# Altium schematic symbol library Nanjar's Library.SchLib: 96 symbols
Pins are listed as number, name and electrical type; pins without a type are passive.

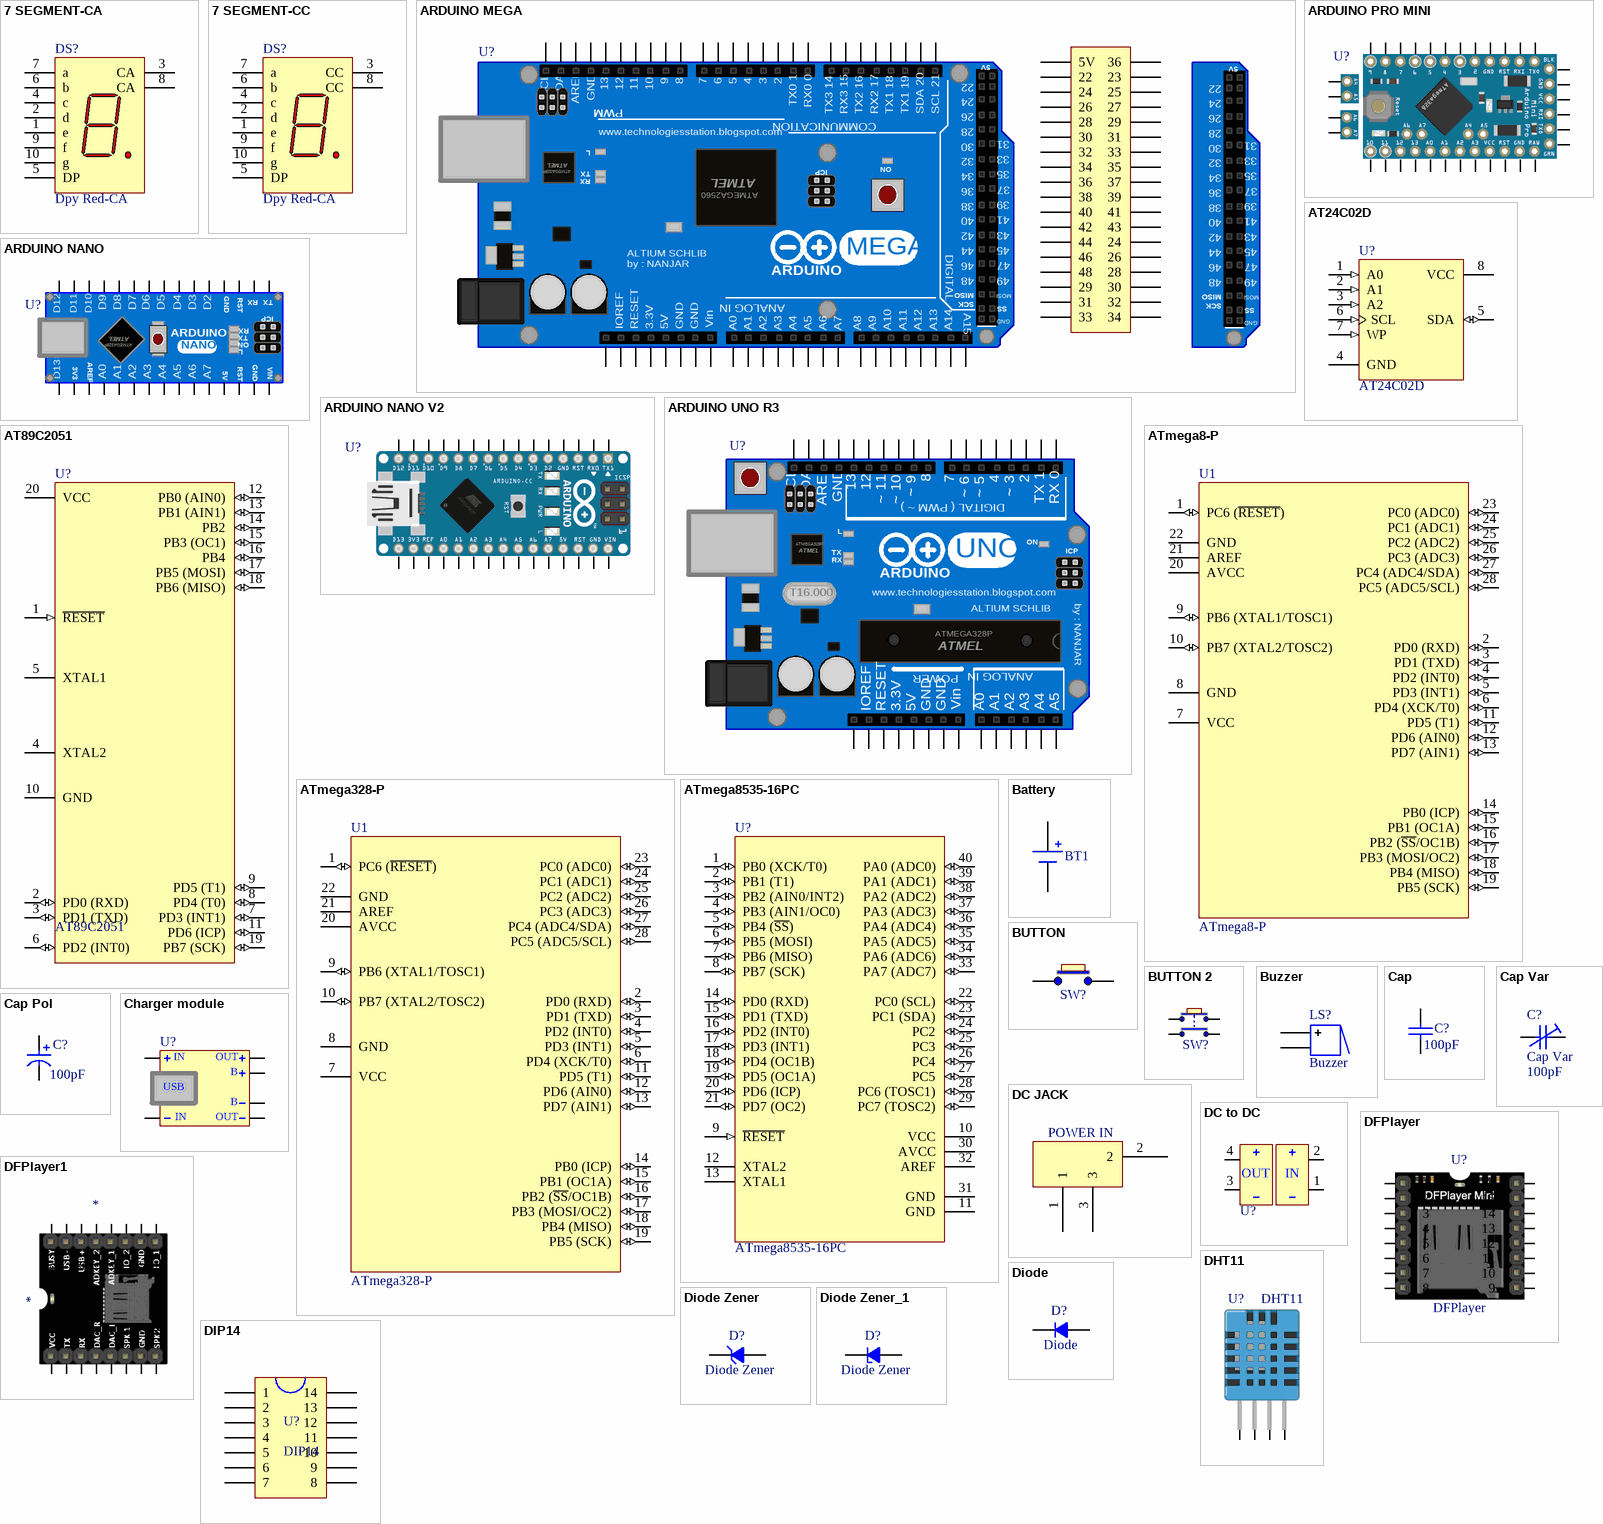
[diagram p0: symbols 7 SEGMENT-CA to DIP14]

## 7 SEGMENT-CA
designator DS?, comment Dpy Red-CA
Black Surface 7-Segment Display: CA, RH DP; MinimumIntensity: 360 ucd; Note: IF = 5 mA; Colour: High Efficiency Red (HER); Note: Pins 1 and 6 are redundant Anodes.; Published: 8-Jun-2000; LatestRevisionDate: 17-Dec-2003; LatestRevisionNote: Schematic revised, PCB Footprint replaced.; DatasheetVersion: 19-Feb-2002; PackageVersion: 11-Feb-2002; PackageReference: A; Publisher: Altium Limited; PackageDescription: LED, 7-Segment Display, 7.62 mm, RHD; 10 Leads; Row Space 5.08 mm; Pitch 2.54 mm; ComponentLink1Description: Manufacturer Link; ComponentLink1URL: http://www.agilent.com/
footprint 7 SEGMENT 0.56 1 DIGIT
footprint 7 SEGMENT 1.0 1 DIGIT
footprint 7 SEGMENT 4"
pins: 1 e "Cathode", 2 d "Cathode", 3 CA "Anode", 4 c "Cathode", 5 DP "Cathode", 6 b "Cathode", 7 a "Cathode", 8 CA "Anode", 9 f "Cathode", 10 g "Cathode"

## 7 SEGMENT-CC
designator DS?, comment Dpy Red-CA
Black Surface 7-Segment Display: CC, RH DP; MinimumIntensity: 360 ucd; Note: IF = 5 mA; Colour: High Efficiency Red (HER); Note: Pins 1 and 6 are redundant Anodes.; Published: 8-Jun-2000; LatestRevisionDate: 17-Dec-2003; LatestRevisionNote: Schematic revised, PCB Footprint replaced.; DatasheetVersion: 19-Feb-2002; PackageVersion: 11-Feb-2002; PackageReference: A; Publisher: Altium Limited; PackageDescription: LED, 7-Segment Display, 7.62 mm, RHD; 10 Leads; Row Space 5.08 mm; Pitch 2.54 mm; ComponentLink1Description: Manufacturer Link; ComponentLink1URL: http://www.agilent.com/
footprint 7 SEGMENT 0.56 1 DIGIT
footprint 7 SEGMENT 1.0 1 DIGIT
footprint 7 SEGMENT 4"
pins: 1 e "Cathode", 2 d "Cathode", 3 CC "Anode", 4 c "Cathode", 5 DP "Cathode", 6 b "Cathode", 7 a "Cathode", 8 CC "Anode", 9 f "Cathode", 10 g "Cathode"

## ARDUINO MEGA
designator U?
footprint ARDUINO UNO R3
footprint ARDUINO UNO R3 ORG
pins: 0 RX 0, 0 RX 0, 1 TX 1, 1 TX 1, 2, 2, 3 ~ 3, 3 ~ 3, 4, 4, 5 ~ 5, 5 ~ 5, 5V, 6 ~ 6, 6 ~ 6, 7, 7, 8, 9 ~ 9, 10 ~ 10, 11 ~ 11, 12, 13, 14 GND, 15 AREF, 15 36, 16 SDA, 17 SCL, 17 38, 18 Vin, 19 GND, 20 GND, 21 5V, 21 42, 22 3.3V, 22, 22 43, 23 RESET, 23, 24 IOREF, 24, 24, 25 1, 25, 26, 26, 27, 27 48, 28, 28, 29, 29, 30, 30, 31, 31, 32, 32, 33, 33, 34, 34, 35, 36, 37, 39, 40, 41, 44, 46, A0, A0, A1, A1, A2, A2, A3, A3, A4, A4, A5, A5, A6, A6, A7, A7
text: PWM; TX0 1; RX0 0; TX3 14; RX3 15; TX2 16; RX2 17; TX1 18; TX1 19; SDA 20; SCL 21; COMMUNICATION; www.technologiesstation.blogspot.com; L; ATMEL; ATMEGA328P; TX; ICP; ON; RX; ATMEGA2560; 45; ALTIUM SCHLIB; DIGITAL; 47; MEGA; by : NANJAR; 49; ARDUINO; MISO; MOSI; ANALOG IN; SCK; SS; A15; A8; A9; A10; A11; A12; A13; A14

## ARDUINO NANO
designator U?
footprint ARDUINO UNO R3
footprint ARDUINO UNO R3 ORG
pins: 1 TX, 2 RX, 4 GND, 5 D2, 6 D3, 7 D4, 9 D6, 10 D7, 11 D8, 12 D9, 13 D10, 14 D11, 15 D12, 16 D13, 17 3V3, 18 AREF, 19 A0, 20 A1, 21 A2, 22 A3, 23 A4, 24 A5, 25 A6, 26 A7, 27 5V, 28 RST, 29 GND, 30 VIN, D5 8, RST 3
text: ICP; ATMEL; ATMEGA328P; ARDUINO; ON; L; NANO

## ARDUINO NANO V2
designator U?
footprint ARDUINO NANO
footprint ARDUINO NANO1
pins: 1 TX, 2 RX, 4 GND, 5 D2, 6 D3, 7 D4, 8 D5, 9 D6, 10 D7, 11 D8, 12 D9, 13 D10, 14 D11, 15 D12, 16 D13, 17 3V3, 18 AREF, 19 A0, 20 A1, 21 A2, 22 A3, 23 A4, 24 A5, 25 A6, 26 A7, 27 5V, 28 RST, 29 GND, 30 VIN, RST 3

## ARDUINO PRO MINI
designator U?
footprint ARDUINO PRO MINI 3V3
pins: 1 TX, 2 RX, 4 GND, 5 D2, 6 D3, 7 D4, 8 D5, 9 D6, 10 D7, 11 D8, 12 D9, 13 D10, 14 D11, 15 D12, 16 D13, 17 A0, 18 A1, 19 A2, 20 A3, 21 VCC, 22 RST, 23 GND, 24 RAW, 25 GRN, 26 TX, 27 RX, 28 VCC, 29 GND, 30 BLK, 31 A4, 32 A5, 33 D10, 34 D11, RST 3

## ARDUINO UNO R3
designator U?
footprint ARDUINO UNO R3
footprint ARDUINO UNO R3 ORG
footprint ARDUINO UNO R3 SHIELD
pins: 0 RX 0, 1 TX 1, 2, 3 ~ 3, 4, 5 ~ 5, 6 ~ 6, 7, 8, 9 ~ 9, 10 ~ 10, 11 ~ 11, 12, 13, 14 GND, 15 AREF, 16 SDA, 17 SCL, 18 Vin, 19 GND, 20 GND, 21 5V, 22 3.3V, 23 RESET, 24 IOREF, 25 1, A0, A1, A2, A3, A4, A5
text: DIGITAL ( PWM ~ ); L; ATMEGA328P; ON; ATMEL; TX; ICP; RX; UNO; ARDUINO; T16.000; www.technologiesstation.blogspot.com; by : NANJAR; ALTIUM SCHLIB; POWER; ANALOG IN

## AT24C02D
designator U?
2Kbit Serial I²C Bus EEPROM; Published: 24-Aug-2001; PackageVersion: Jun-1998; PackageReference: PSDIP8A; Publisher: Altium Limited; PackageDescription: DIP; 8 Leads; Row Spacing 7.62 mm; Pitch 2.54 mm
footprint DIP8
pins: 1 A0 (in), 2 A1 (in), 3 A2 (in), 4 GND (power), 5 SDA (io), 6 SCL (in), 7 WP (in), 8 VCC (power)

## AT89C2051
designator U?
8-Bit AVR Microcontroller with 2K Bytes of In-System Programmable Flash Memory; Published: 17-Sep-2003; LatestRevisionDate: 04-Mar-2005; LatestRevisionNote: Stylized 3D Model Added.; DatasheetVersion: 0839I-AVR-06/02; PackageVersion: Aug-1999; PackageReference: 20P3; Publisher: Altium Limited; PackageDescription: DIP; 20 Leads; Row Spacing 7.62 mm; Pitch 2.54 mm; Code_JEDEC: MS-001-AD; ComponentLink1Description: Manufacturer Link; ComponentLink1URL: http://www.atmel.com; ComponentLink2Description: Datasheet; ComponentLink2URL: http://www.atmel.com/dyn/resources/prod_documents/doc0839.pdf
footprint DIP-20 (DIP; 14 Leads; Row Spacing 7.62 mm; Pitch 2.54 mm)
pins: 1 ~{RESET} (in), 2 PD0 (RXD) (io), 3 PD1 (TXD) (io), 4 XTAL2, 5 XTAL1, 6 PD2 (INT0) (io), 7 PD3 (INT1) (io), 8 PD4 (T0) (io), 9 PD5 (T1) (io), 10 GND (power), 11 PD6 (ICP) (io), 12 PB0 (AIN0) (io), 13 PB1 (AIN1) (io), 14 PB2 (io), 15 PB3 (OC1) (io), 16 PB4 (io), 17 PB5 (MOSI) (io), 18 PB6 (MISO) (io), 19 PB7 (SCK) (io), 20 VCC (power)

## ATmega8-P
designator U1
8-Bit AVR Microcontroller with 8K Bytes of In-System Programmable Flash Memory; Published: 17-Sep-2003; LatestRevisionDate: 04-Mar-2005; LatestRevisionNote: Stylized 3D Model Added.; DatasheetVersion: 2486H-AVR-09/02; PackageVersion: revB, Sep-2001; PackageReference: 28P3; Publisher: Altium Limited; PackageDescription: DIP; 28 Leads; Row Spacing 7.62 mm; Pitch 2.54 mm; ComponentLink1Description: Manufacturer Link; ComponentLink1URL: http://www.atmel.com; ComponentLink2Description: Datasheet; ComponentLink2URL: http://www.atmel.com/dyn/resources/prod_documents/doc2486.pdf
footprint DIP-28 (DIP; 28 Leads; Row Spacing 7.62 mm; Pitch 2.54 mm)
footprint DIP-28 With Socket (DIP; 28 Leads; Row Spacing 7.62 mm; Pitch 2.54 mm)
pins: 1 PC6 (~{RESET}) (io), 2 PD0 (RXD) (io), 3 PD1 (TXD) (io), 4 PD2 (INT0) (io), 5 PD3 (INT1) (io), 6 PD4 (XCK/T0) (io), 7 VCC (power), 8 GND (power), 9 PB6 (XTAL1/TOSC1) (io), 10 PB7 (XTAL2/TOSC2) (io), 11 PD5 (T1) (io), 12 PD6 (AIN0) (io), 13 PD7 (AIN1) (io), 14 PB0 (ICP) (io), 15 PB1 (OC1A) (io), 16 PB2 (~{SS}/OC1B) (io), 17 PB3 (MOSI/OC2) (io), 18 PB4 (MISO) (io), 19 PB5 (SCK) (io), 20 AVCC (power), 21 AREF, 22 GND (power), 23 PC0 (ADC0) (io), 24 PC1 (ADC1) (io), 25 PC2 (ADC2) (io), 26 PC3 (ADC3) (io), 27 PC4 (ADC4/SDA) (io), 28 PC5 (ADC5/SCL) (io)

## ATmega328-P
designator U1
8-Bit AVR Microcontroller with 8K Bytes of In-System Programmable Flash Memory; Published: 17-Sep-2003; LatestRevisionDate: 04-Mar-2005; LatestRevisionNote: Stylized 3D Model Added.; DatasheetVersion: 2486H-AVR-09/02; PackageVersion: revB, Sep-2001; PackageReference: 28P3; Publisher: Altium Limited; PackageDescription: DIP; 28 Leads; Row Spacing 7.62 mm; Pitch 2.54 mm; ComponentLink1Description: Manufacturer Link; ComponentLink1URL: http://www.atmel.com; ComponentLink2Description: Datasheet; ComponentLink2URL: http://www.atmel.com/dyn/resources/prod_documents/doc2486.pdf
footprint DIP-28 (DIP; 28 Leads; Row Spacing 7.62 mm; Pitch 2.54 mm)
footprint DIP-28 With Socket (DIP; 28 Leads; Row Spacing 7.62 mm; Pitch 2.54 mm)
pins: 1 PC6 (~{RESET}) (io), 2 PD0 (RXD) (io), 3 PD1 (TXD) (io), 4 PD2 (INT0) (io), 5 PD3 (INT1) (io), 6 PD4 (XCK/T0) (io), 7 VCC (power), 8 GND (power), 9 PB6 (XTAL1/TOSC1) (io), 10 PB7 (XTAL2/TOSC2) (io), 11 PD5 (T1) (io), 12 PD6 (AIN0) (io), 13 PD7 (AIN1) (io), 14 PB0 (ICP) (io), 15 PB1 (OC1A) (io), 16 PB2 (~{SS}/OC1B) (io), 17 PB3 (MOSI/OC2) (io), 18 PB4 (MISO) (io), 19 PB5 (SCK) (io), 20 AVCC (power), 21 AREF, 22 GND (power), 23 PC0 (ADC0) (io), 24 PC1 (ADC1) (io), 25 PC2 (ADC2) (io), 26 PC3 (ADC3) (io), 27 PC4 (ADC4/SDA) (io), 28 PC5 (ADC5/SCL) (io)

## ATmega8535-16PC
designator U?
8-Bit AVR Microcontroller with 8K Bytes of In-System Programmable Flash Memory; Published: 17-Sep-2003; LatestRevisionDate: 04-Mar-2005; LatestRevisionNote: Stylized 3D Model Added.; DatasheetVersion: 2502B-AVR-09/02; PackageVersion: Dec-1999; PackageReference: 40P6; Publisher: Altium Limited; PackageDescription: DIP; 40 Leads; Row Spacing 15.24 mm; Pitch 2.54 mm; ComponentLink1Description: Manufacturer Link; ComponentLink1URL: http://www.atmel.com; ComponentLink2Description: Datasheet; ComponentLink2URL: http://www.atmel.com/dyn/resources/prod_documents/doc2502.pdf
footprint DIP-40 (DIP; 40 Leads; Row Spacing 15.24 mm; Pitch 2.54 mm)
footprint DIP-40 SOCKET (DIP; 40 Leads; Row Spacing 15.24 mm; Pitch 2.54 mm)
footprint SOCKET DIP40 2 (DIP; 40 Leads; Row Spacing 15.24 mm; Pitch 2.54 mm)
pins: 1 PB0 (XCK/T0) (io), 2 PB1 (T1) (io), 3 PB2 (AIN0/INT2) (io), 4 PB3 (AIN1/OC0) (io), 5 PB4 (~{SS}) (io), 6 PB5 (MOSI) (io), 7 PB6 (MISO) (io), 8 PB7 (SCK) (io), 9 ~{RESET} (in), 10 VCC (power), 11 GND (power), 12 XTAL2, 13 XTAL1, 14 PD0 (RXD) (io), 15 PD1 (TXD) (io), 16 PD2 (INT0) (io), 17 PD3 (INT1) (io), 18 PD4 (OC1B) (io), 19 PD5 (OC1A) (io), 20 PD6 (ICP) (io), 21 PD7 (OC2) (io), 22 PC0 (SCL) (io), 23 PC1 (SDA) (io), 24 PC2 (io), 25 PC3 (io), 26 PC4 (io), 27 PC5 (io), 28 PC6 (TOSC1) (io), 29 PC7 (TOSC2) (io), 30 AVCC (power), 31 GND (power), 32 AREF, 33 PA7 (ADC7) (io), 34 PA6 (ADC6) (io), 35 PA5 (ADC5) (io), 36 PA4 (ADC4) (io), 37 PA3 (ADC3) (io), 38 PA2 (ADC2) (io), 39 PA1 (ADC1) (io), 40 PA0 (ADC0) (io)

## Battery
designator BT1  (value not drawn)
Multicell Battery; Published: 24-Mar-1999; LatestRevisionDate: 17-Jul-2002; LatestRevisionNote: Re-released for DXP Platform.; PackageReference: BAT-2; Publisher: Altium Limited; PackageDescription: Battery; 2 Leads
footprint BAT-2 (Battery; 2 Leads)
pins: 1 +, 2 -

## BUTTON
designator SW?  (value not drawn)
pins: 1, 2

## BUTTON 2
designator SW?, comment BUTTON  (value not drawn)
footprint PUSH BUTTON 4P
pins: 1, 2, 3, 4

## Buzzer
designator LS?
Magnetic Transducer Buzzer; Published: 24-Mar-1999; LatestRevisionDate: 17-Dec-2003; LatestRevisionNote: Schematic revised, PCB Footprint replaced.; DatasheetVersion: 17-Dec-2003; PackageReference: ABSM-1574; Publisher: Altium Limited; PackageDescription: Magnetic Transducer Buzzer; ComponentLink1Description: Manufacturer Link; ComponentLink1URL: http://www.megastar.com/linecard/buzzmode/index.php
footprint BUZZER2
pins: 1, 2
1 alternate drawing of the same symbol

## Cap
designator C?  value 100pF
Capacitor; Published: 8-Jun-2000; LatestRevisionDate: 17-Jul-2002; LatestRevisionNote: Re-released for DXP Platform.; PackageReference: RAD-0.3; Publisher: Altium Limited; PackageDescription: Radial Cap, Thru-Hole; 2 Leads; 0.3 in Pin Spacing
footprint CAP 104 (Capasitor Troughole)
footprint CAP NONP2
footprint CAPASITOR FILM 6MM P
pins: 1, 2

## Cap Pol
designator C?  value 100pF
Polarized Capacitor (Radial); Published: 8-Jun-2000; LatestRevisionDate: 17-Jul-2002; LatestRevisionNote: Re-released for DXP Platform.; PackageReference: RB7.6-15; Publisher: Altium Limited; PackageDescription: Polarized Capacitor (Radial); 2 Leads
footprint CAPASITOR RAD 5x11mm
footprint CAPASITOR RAD 6.3x11mm
footprint CAPASITOR RAD 8x12mm
footprint CAPASITOR RAD 5.6 mm "1/.2"
pins: 1, 2
1 alternate drawing of the same symbol

## Cap Var
designator C?  value 100pF
Variable or Adjustable Capacitor; Published: 24-Mar-1999; LatestRevisionDate: 29-May-2009; LatestRevisionNote: IPC-7351 Footprint Added.; PackageReference: C1210; Publisher: Altium Limited; PackageDescription: Chip Capacitor 1210 Case Size; Code_JEITA: 1210; Code_IPC: CAPC3225
footprint C1210_N (Chip Capacitor, Body 3.2x2.5mm, IPC Medium Density)
footprint C1210_L (Chip Capacitor, Body 3.2x2.5mm, IPC High Density)
footprint C1210_M (Chip Capacitor, Body 3.2x2.5mm, IPC Low Density)
signal-integrity model Cap Var
pins: 1, 2

## Charger module
designator U?, comment Isolated Sub-Miniature 1W Single Output DC/DC Converters  (value not drawn)
Manufacturer Part No: NKE1205SC; Price: *; Order Code: *; Manufacturer: *; Value: *
footprint Charger Module
pins: 1, 2, 3, 4, 5, 6
text: IN; OUT; B; USB

## DC JACK
designator DCIN, comment POWER IN
footprint DCJACK
pins: 1, 2, 3

## DC to DC
designator U?, comment Isolated Sub-Miniature 1W Single Output DC/DC Converters  (value not drawn)
Manufacturer Part No: NKE1205SC; Price: *; Order Code: *; Manufacturer: *; Value: *
pins: 1, 2, 3, 4
text: OUT; IN

## DFPlayer
designator U?
footprint DFPlayer
pins: 1, 2, 3, 4, 5, 6, 7, 8, 9, 10, 11, 12, 13, 14, 15, 16

## DFPlayer1
designator *
footprint DFPlayer
pins: 1, 2, 3, 4, 5, 6, 7, 8, 9, 10, 11, 12, 13, 14, 15, 16

## DHT11
designator U?
footprint DHT11 (Humidity Sensor)
pins: 1 VCC, 2 DATA, 3 NC, 4 GND

## Diode
designator D?
Default Diode; Published: 8-Jun-2000; LatestRevisionDate: 17-Jul-2002; LatestRevisionNote: Re-released for DXP Platform.; PackageVersion: Sep-1996; PackageReference: SMC; Publisher: Altium Limited; PackageDescription: DO-214-AB/SMC; 2 C-Bend Leads; Body 7.9 x 5.9 mm, inc. leads (LxW); Code_JEDEC: DO-214-AB
footprint DIODE 4007 (DIODE 4002)
footprint DIODA DO-41 (DIODE AXIAL 5.2 X 2.7)
footprint DIODE 4148
footprint DIODE 4007 SMD
pins: 1 A, 2 K

## Diode Zener
designator D?
Default Diode; Published: 8-Jun-2000; LatestRevisionDate: 17-Jul-2002; LatestRevisionNote: Re-released for DXP Platform.; PackageVersion: Sep-1996; PackageReference: SMC; Publisher: Altium Limited; PackageDescription: DO-214-AB/SMC; 2 C-Bend Leads; Body 7.9 x 5.9 mm, inc. leads (LxW); Code_JEDEC: DO-214-AB
footprint DIODE 4007 (DIODE 4002)
footprint DIODA DO-41 (DIODE AXIAL 5.2 X 2.7)
pins: 1 A, 2 K

## Diode Zener_1
designator D?, comment Diode Zener
Default Diode; Published: 8-Jun-2000; LatestRevisionDate: 17-Jul-2002; LatestRevisionNote: Re-released for DXP Platform.; PackageVersion: Sep-1996; PackageReference: SMC; Publisher: Altium Limited; PackageDescription: DO-214-AB/SMC; 2 C-Bend Leads; Body 7.9 x 5.9 mm, inc. leads (LxW); Code_JEDEC: DO-214-AB
footprint DIODE 4007 (DIODE 4002)
footprint DIODA DO-41 (DIODE AXIAL 5.2 X 2.7)
footprint DIODE 4148
pins: 1 A, 2 K

## DIP14
designator U?
footprint DIP14
pins: 1, 2, 3, 4, 5, 6, 7, 8, 9, 10, 11, 12, 13, 14

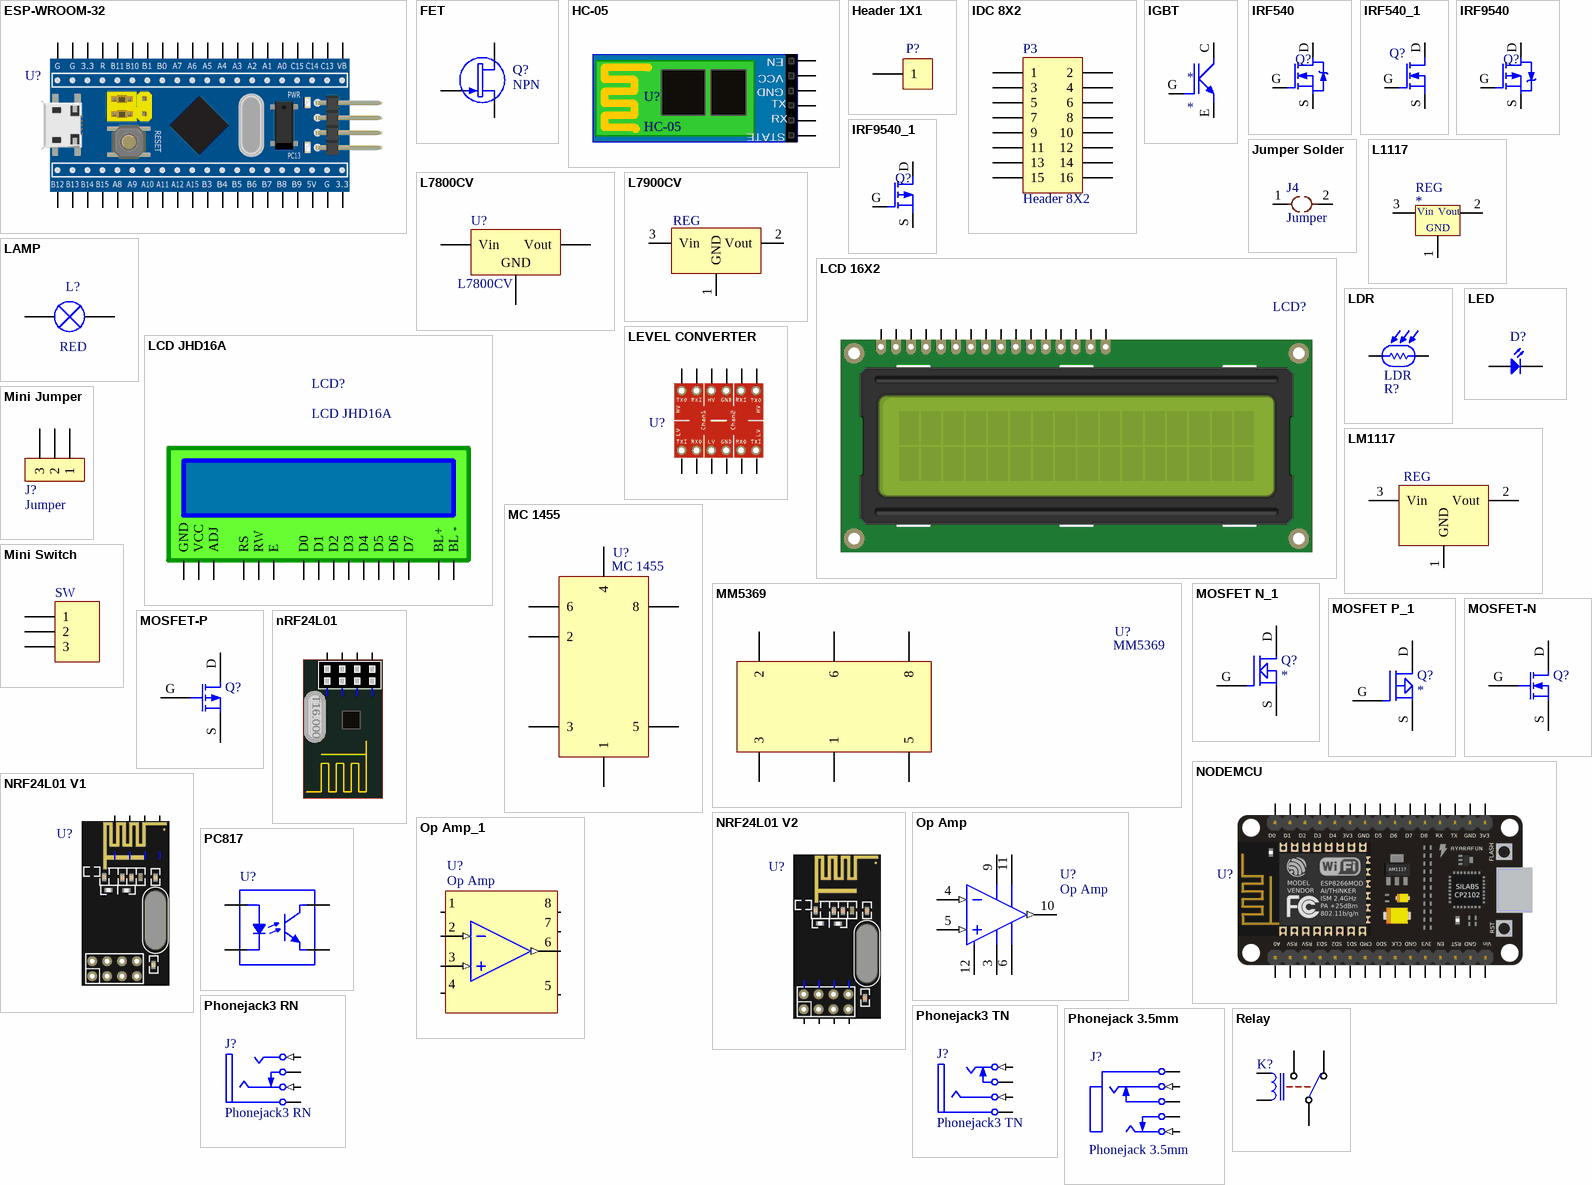
[diagram p1: symbols ESP-WROOM-32 to Relay]

## ESP-WROOM-32
designator U?
footprint STM32 BLUE PILL
pins: 1 VB, 2 C13, 3 C14, 4 C15, 5 A0, 6 A1, 7 A2, 8 A3, 9 A4, 10 A5, 11 A6, 12 A7, 13 B0, 14 B1, 15 B2, 16 B3, 17 R, 18 3V3, 19 G, 20 G, 21 B12, 22 B13, 23 B14, 24 B15, 25 A8, 26 A9, 27 A10, 28 A11, 29 A12, 30 A13, 31 B3, 32 B4, 33 B5, 34 B6, 35 B7, 36 B8, 37 B9, 38 5V, 39 G, 40 3V3

## FET
designator Q?, comment NPN
NPN General Purpose Amplifier; Published: 8-Jun-2000; LatestRevisionDate: 15-Jan-2003; LatestRevisionNote: PCB Footprint 'BCY-W3/D4.7' replaced; DatasheetDocument: 1997; PackageDocument: Sep-1998; PackageReference: TO-92A; Publisher: Altium Limited; Code_JEDEC: TO-92A; ComponentLink1Description: Manufacturer Link; ComponentLink1URL: http://www.fairchildsemi.com/; ComponentLink2Description: Datasheet; ComponentLink2URL: http://www.fairchildsemi.com/ds/2N%2F2N3904.pdf
footprint TO-92C3
pins: B, C, E

## HC-05
designator U?
BLUETOOTH MODULE
footprint HDR1X6 (Footprint not found)
pins: 1 EN, 2 VCC, 3 GND, 4 TX, 5 RX, 6 STATE

## Header 1X1
designator P?  (value not drawn)
footprint HDR1X1 B (Connector; Header; 6 Position)
pins: 1

## IDC 8X2
designator P3, comment Header 8X2
Header, 8-Pin, Dual row; LatestRevisionDate: 17-Jul-2002; LatestRevisionNote: Re-released for DXP Platform.; Publisher: Altium Limited
signal-integrity model Connector
footprint IDC 16P (Connector; Header; 8x2 Position)
pins: 1, 2, 3, 4, 5, 6, 7, 8, 9, 10, 11, 12, 13, 14, 15, 16

## IGBT
designator *
pins: C, E, G

## IRF540
designator Q?, comment POWER MOSFET  (value not drawn)
pins: D, G, S

## IRF540_1
designator Q?, comment POWER MOSFET  (value not drawn)
pins: D, G, S

## IRF9540
designator Q?, comment POWER MOSFET  (value not drawn)
pins: D, G, S

## IRF9540_1
designator Q?, comment POWER MOSFET  (value not drawn)
pins: D, G, S

## Jumper Solder
designator J4, comment Jumper
footprint SJ
footprint SJ-A
pins: 1, 2

## L1117
designator REG
pins: 1 GND, 2 Vout, 3 Vin

## L7800CV
designator U?
Voltage Regulator; PackageDescription: 3-Pin Transistor Outline Package 2.54 mm Pitch, 15.1 mm Lead Span
footprint TO-220R
pins: 1 Vin, 2 GND, 3 Vout

## L7900CV
designator REG
footprint T0-220 A
pins: 1 GND, 2 Vout, 3 Vin

## LAMP
designator L?, comment RED
Typical RED GaAs LED; Published: 8-Jun-2000; LatestRevisionDate: 08-Jul-2005; LatestRevisionNote: Mech Layer 1 removed.; Publisher: Altium Limited; PackageDescription: LED; 2 Leads
footprint LED5mm R
pins: 1 A, 2 K

## LCD 16X2
designator LCD?, comment JHD16A  (value not drawn)
footprint LDC 16X2 Arduino
pins: 1 GND, 2 VCC, 3 VDD, 4 RS, 5 RAW, 6 E, 7 D0, 8 D1, 9 D2, 10 D3, 11 D4, 12 D5, 13 D6, 14 D7, 15 BL (+), 16 BL (-)

## LCD JHD16A
designator LCD?
footprint LDC 16X2
pins: 1 GND, 2 VCC, 3 ADJ, 4 RS, 5 RW, 6 E, 7 D0, 8 D1, 9 D2, 10 D3, 11 D4, 12 D5, 13 D6, 14 D7, 15 BL+, 16 BL -

## LDR
designator R?
Published: 8-Jun-2000; LatestRevisionDate: 17-Jul-2002; LatestRevisionNote: Re-released for DXP Platform.; PackageReference: AXIAL-0.3; Publisher: Altium Limited; PackageDescription: Axial Device, Thru-Hole; 2 Leads; 0.3 in Pin Spacing
footprint LDR
pins: 1, 2

## LED
designator D?, comment LED 5mm  (value not drawn)
Typical RED GaAs LED; Published: 8-Jun-2000; LatestRevisionDate: 08-Jul-2005; LatestRevisionNote: Mech Layer 1 removed.; Publisher: Altium Limited; PackageDescription: LED; 2 Leads
footprint LED5mm R
footprint LED5mm G
footprint LED5mm Y
footprint LED 3mm G
footprint LED5mm O
footprint LED 1206
pins: 1 A, 2 K

## LEVEL CONVERTER
designator U?  (value not drawn)
footprint LEVEL CONVERTER (SPARKFUN)
pins: 1, 2, 3, 4, 5, 6, 7, 8, 9, 10, 11, 12

## LM1117
designator REG  (value not drawn)
footprint TO-252
pins: 1 GND, 2 Vout, 3 Vin

## MC 1455
designator U?
2Kbit Serial I²C Bus EEPROM; Published: 24-Aug-2001; PackageVersion: Jun-1998; PackageReference: PSDIP8A; Publisher: Altium Limited; PackageDescription: DIP; 8 Leads; Row Spacing 7.62 mm; Pitch 2.54 mm
footprint DIP8
pins: 1, 2, 3, 4 (power), 5, 6, 8 (power)

## Mini Jumper
designator J?, comment Jumper
Mini Jumper, 3-Pin; LatestRevisionDate: 17-Jul-2002; LatestRevisionNote: Re-released for DXP Platform.; Publisher: Altium Limited
footprint HDR1X3 (Connector; Header; 6 Position)
signal-integrity model Connector
pins: 1, 2, 3

## Mini Switch
designator SW, comment SW  (value not drawn)
Header, 3-Pin; LatestRevisionDate: 17-Jul-2002; LatestRevisionNote: Re-released for DXP Platform.; Publisher: Altium Limited
footprint SW SPDT MHSS1104 (Micro Sliding Switch pitch 2.5mm)
pins: 1, 2, 3

## MM5369
designator U?
2Kbit Serial I²C Bus EEPROM; Published: 24-Aug-2001; PackageVersion: Jun-1998; PackageReference: PSDIP8A; Publisher: Altium Limited; PackageDescription: DIP; 8 Leads; Row Spacing 7.62 mm; Pitch 2.54 mm
footprint DIP8
pins: 1, 2, 3, 5, 6, 8 (power)

## MOSFET N_1
designator Q?
footprint TO-220U2
pins: D, G, S

## MOSFET P_1
designator Q?
footprint TO-220U2
pins: D, G, S

## MOSFET-N
designator Q?
N-Channel MOSFET; Published: 8-Jun-2000; LatestRevisionDate: 17-Jul-2002; LatestRevisionNote: Re-released for DXP Platform.; PackageVersion: 1995/1996; PackageReference: E3; Publisher: Altium Limited; PackageDescription: TO, Flat Index; 3 In-Line, Axial Leads; Body Dia. 4.6mm; Lead Dia. 0.5 mm (max)
footprint TO-220U2
pins: D, G, S

## MOSFET-P
designator Q?
P-Channel MOSFET; Published: 8-Jun-2000; LatestRevisionDate: 17-Jul-2002; LatestRevisionNote: Re-released for DXP Platform.; PackageVersion: 1995/1996; PackageReference: E3; Publisher: Altium Limited; PackageDescription: TO, Flat Index; 3 In-Line, Axial Leads; Body Dia. 4.6mm; Lead Dia. 0.5 mm (max)
footprint TO-220U2
pins: D, G, S

## NODEMCU
designator U?  (value not drawn)
footprint NODEMCU
footprint NODEMCU 1
pins: 1 3V3, 2 GND, 4 RX, 5 D8, 6 D7, 7 D6, 8 D5, 9 GND, 10 3V3, 11 D4, 12 D3, 13 D2, 14 D1, 15 D0, 16 A0, 17 RSV, 18 RSV, 19 SD3, 20 SD2, 21 SD1, 22 CMD, 23 SD0, 24 CLK, 25 GND, 26 3V3, 27 EN, 28 RST, 29 GND, 30 VIN, RST TX

## nRF24L01
designator U?  (value not drawn)
Wireless RF; LatestRevisionDate: 17-Jul-2002; LatestRevisionNote: Re-released for DXP Platform.; Publisher: Altium Limited
footprint HDR2X4 (Footprint not found)
pins: 1, 2, 3, 4, 5, 6, 7, 8
text: .; T16.000

## NRF24L01 V1
designator U?
footprint HDR2X4 (Footprint not found)
pins: 1, 2, 3, 4, 5, 6, 7, 8

## NRF24L01 V2
designator U?
footprint NRF24L01
pins: 1, 2, 3, 4, 5, 6, 7, 8

## Op Amp
designator U?
FET Operational Amplifier; Published: 8-Jun-2000; LatestRevisionDate: 17-Jul-2002; LatestRevisionNote: Re-released for DXP Platform.; DatasheetVersion: REV. B; PackageVersion: 1990; PackageReference: H-08A; Publisher: Altium Limited; PackageDescription: Can; 8 Leads; Pin Circle Dia. 5.08 mm; Lead Dia. 0.53 mm (max); ComponentLink1Description: Manufacturer Link; ComponentLink1URL: http://www.analog.com/
simulation model AD645A (Spice Subcircuit)
footprint DIP14
pins: 3 V- (power), 4 IN- (in), 5 IN+ (in), 6 OS NUL, 9 V+ (power), 10 OUT (out), 11 TAB, 12 OS NUL

## Op Amp_1
designator U?, comment Op Amp
FET Operational Amplifier; Published: 8-Jun-2000; LatestRevisionDate: 17-Jul-2002; LatestRevisionNote: Re-released for DXP Platform.; DatasheetVersion: REV. B; PackageVersion: 1990; PackageReference: H-08A; Publisher: Altium Limited; PackageDescription: Can; 8 Leads; Pin Circle Dia. 5.08 mm; Lead Dia. 0.53 mm (max); ComponentLink1Description: Manufacturer Link; ComponentLink1URL: http://www.analog.com/
simulation model AD645A (Spice Subcircuit)
footprint DIP14
pins: 1 V+ (power), 2 IN- (in), 3 IN+ (in), 4 V+ (power), 5 OS NUL, 6 OUT (out), 7 V- (power), 8 OS NUL

## PC817
designator U?, comment Optocoupler  (value not drawn)
NPN Optocoupler; Published: 8-Jun-2000; LatestRevisionDate: 15-Jan-2003; LatestRevisionNote: PCB Footprint 'BCY-W3/D4.7' replaced; DatasheetDocument: 1997; PackageDocument: Sep-1998; PackageReference: TO-92A; Publisher: Altium Limited; Code_JEDEC: TO-92A; ComponentLink1Description: Manufacturer Link; ComponentLink1URL: http://www.fairchildsemi.com/; ComponentLink2Description: Datasheet; ComponentLink2URL: http://www.fairchildsemi.com/ds/2N%2F2N3904.pdf
footprint DIP-4 PC817 (DIP; 14 Leads; Row Spacing 7.62 mm; Pitch 2.54 mm)
footprint DIP-4 PC817 SMD (DIP; 14 Leads; Row Spacing 7.62 mm; Pitch 2.54 mm)
pins: 1 A, 2 K, 3 E, 4 C

## Phonejack3 RN
designator J?
Jack Socket, 1/4" [6.5mm], Thru-Hole, Vertical, 3-Conductor with Tip open & Ring closed; PackageDocument: 2003; PCB_Layout: Complies with manufacturer's recommendation.; DrillAndSlotSize: Corresponds to nominal value.; Published: 15-Jul-2004; DatasheetDocument: 2003; PackageReference: S1VS_SBS; Publisher: Altium Limited; ComponentLink1Description: Manufacturer Link; ComponentLink1URL: http://www.cliffuk.co.uk/
footprint JACK/6-V4A (Connector; Jack Socket, 1/4" [6.5mm], Thru-Hole, 4 Position, Vertical, Body 15.7 x 15.7 x 31 mm (WxTxH))
signal-integrity model JACK Socket
pins: 1 T (in) "Tip/Left Channel/(+)", 3 R (in) "Ring/Right Channel/(-)", 4 RN "Ring Normal (Break Contact)", 5 S (power) "Sleeve (Ground)"

## Phonejack3 TN
designator J?
Jack Socket, 1/4" [6.5mm], Thru-Hole, Vertical, 3-Conductor with Tip closed & Ring open; PackageDocument: 2003; PCB_Layout: Complies with manufacturer's recommendation.; DrillAndSlotSize: Corresponds to nominal value.; Published: 15-Jul-2004; DatasheetDocument: 2003; PackageReference: S1VS_SSB; Publisher: Altium Limited; ComponentLink1Description: Manufacturer Link; ComponentLink1URL: http://www.cliffuk.co.uk/
footprint JACK/6-V4 (Connector; Jack Socket, 1/4" [6.5mm], Thru-Hole, 4 Position, Vertical, Body 15.7 x 15.7 x 31 mm (WxTxH))
signal-integrity model JACK Socket
pins: 1 T (in) "Tip/Left Channel/(+)", 2 TN "Tip Normal (Break Contact)", 3 R (in) "Ring/Right Channel/(-)", 5 S (power) "Sleeve (Ground)"

## Phonejack 3.5mm
designator J?
Jack Socket, 1/4" [6.5mm], Thru-Hole, Vertical, 3-Conductor with Tip closed & Ring open; PackageDocument: 2003; PCB_Layout: Complies with manufacturer's recommendation.; DrillAndSlotSize: Corresponds to nominal value.; Published: 15-Jul-2004; DatasheetDocument: 2003; PackageReference: S1VS_SSB; Publisher: Altium Limited; ComponentLink1Description: Manufacturer Link; ComponentLink1URL: http://www.cliffuk.co.uk/
signal-integrity model JACK Socket
footprint Phonejack 3.5mm
pins: 1 S (power) "Sleeve (Ground)", 2 R (in) "Ring/Right Channel/(-)", 3 RN "Ring Normal (Break Contact)", 4 TN "Tip Normal (Break Contact)", 5 T (in) "Tip/Left Channel/(+)"

## Relay
designator K?
footprint Relay 5V
pins: 1, 2 C, 3, 4 NO, 5 NC

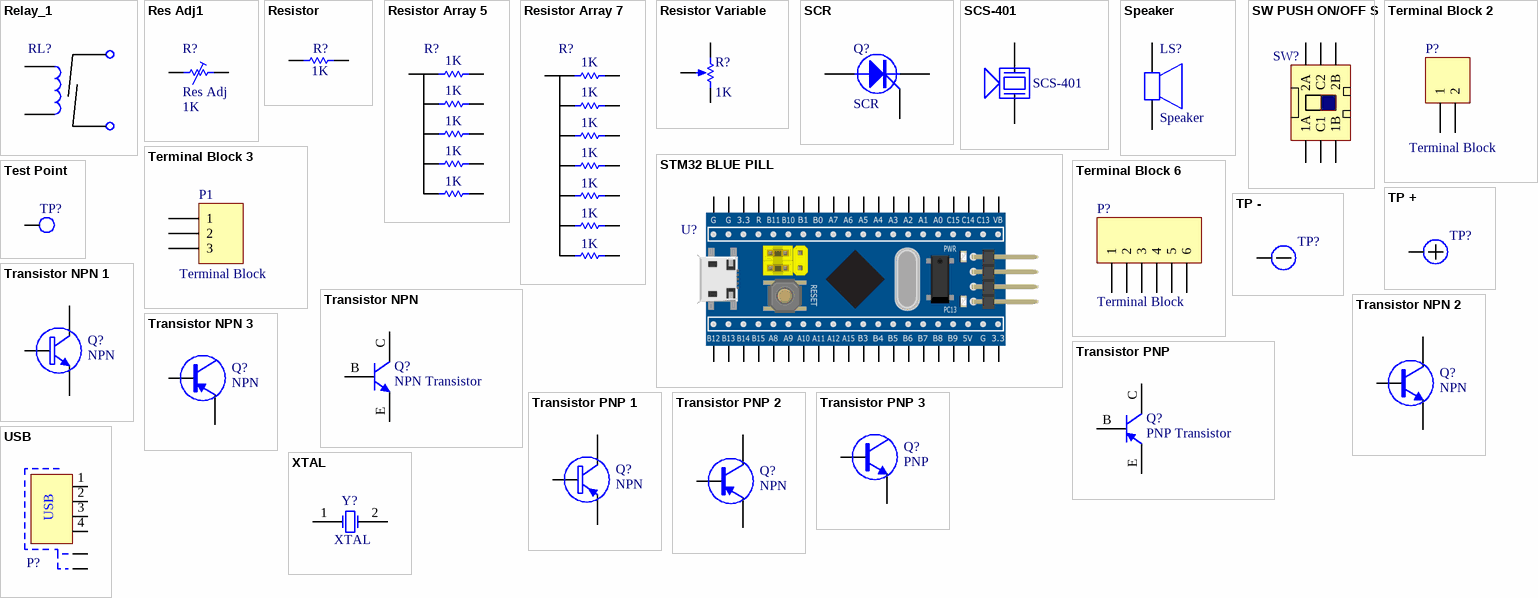
[diagram p2: symbols Relay_1 to XTAL]

## Relay_1
designator RL?
footprint RELAY 12Va
footprint RELAY 12Va
pins: 1, 2

## Res Adj1
designator R?, comment Res Adj  value 1K
Variable Resistor; Set Position: 0.5; Published: 8-Jun-2000; LatestRevisionDate: 17-Jul-2002; LatestRevisionNote: Re-released for DXP Platform.; PackageReference: AXIAL-0.7; Publisher: Altium Limited; PackageDescription: Axial Device, Thru-Hole; 2 Leads; 0.7 in Pin Spacing
pins: 1, 2

## Resistor
designator R?  value 1K  (hidden comment: Resistor)
Published: 8-Jun-2000; LatestRevisionDate: 17-Jul-2002; LatestRevisionNote: Re-released for DXP Platform.; PackageReference: AXIAL-0.3; Publisher: Altium Limited; PackageDescription: Axial Device, Thru-Hole; 2 Leads; 0.3 in Pin Spacing
footprint Res 1/2WatT
footprint R1206 SMD (Capasitor SMD)
footprint RES 0.25WATT
footprint RES STANDING
pins: 1, 2

## Resistor Array 5
designator R?, comment value 1K  (hidden comment: Resistor)
Published: 8-Jun-2000; LatestRevisionDate: 17-Jul-2002; LatestRevisionNote: Re-released for DXP Platform.; PackageReference: AXIAL-0.3; Publisher: Altium Limited; PackageDescription: Axial Device, Thru-Hole; 2 Leads; 0.3 in Pin Spacing
footprint Resistor Array 5 (Connector; Header; 6 Position)
pins: 1, 2, 3, 4, 5, 6

## Resistor Array 7
designator R?, comment value 1K  (hidden comment: Resistor)
Published: 8-Jun-2000; LatestRevisionDate: 17-Jul-2002; LatestRevisionNote: Re-released for DXP Platform.; PackageReference: AXIAL-0.3; Publisher: Altium Limited; PackageDescription: Axial Device, Thru-Hole; 2 Leads; 0.3 in Pin Spacing
footprint Resistor Array 7 (Connector; Header; 6 Position)
pins: 1, 2, 3, 4, 5, 6, 7, 8

## Resistor Variable
designator R?  value 1K  (hidden comment: Resistor Variable)
Potentiometer; Sim Note: Enter the Resistance value and the set point into parameter fields.; Set Position: 0.5; Published: 8-Jun-2000; LatestRevisionDate: 17-Jul-2002; LatestRevisionNote: Re-released for DXP Platform.; PackageReference: VR5; Publisher: Altium Limited; PackageDescription: Variable Resistor, Thru-Hole; 3 Leads
footprint Potentio
footprint VR0
pins: 1 BOT, 2 TAP, 3 TOP
1 alternate drawing of the same symbol

## SCR
designator Q?
Silicon Controlled Rectifier; Published: 8-Jun-2000; LatestRevisionDate: 17-Jul-2002; LatestRevisionNote: Re-released for DXP Platform.; PackageReference: TO-220-AB; Publisher: Altium Limited; Code_JEDEC: TO-220-AB
footprint TO-220-AB (TO, Thru-Hole, Vertical, Heatsink Mounted; 3 In-Line Leads; Pitch 2.54 mm)
simulation model SCR (Spice Subcircuit)
pins: 1 A, 2 G, 3 K

## SCS-401
designator SCS-401  (value not drawn)
40KHz ULTRASONIC TRANDUCER; Published: 8-Jun-2000; LatestRevisionDate: 17-Jul-2002; LatestRevisionNote: Re-released for DXP Platform.; PackageReference: R38; Publisher: Altium Limited; PackageDescription: Crystal, Thru-Hole; 2 Leads; Body 3.1 x 8.2 mm (Dia.xH)
footprint XTAL MHz
pins: 1 OSC1, 2 OSC2

## Speaker
designator LS?
Loudspeaker; Published: 24-Mar-1999; LatestRevisionDate: 17-Jul-2002; LatestRevisionNote: Re-released for DXP Platform.; PackageReference: PIN2; Publisher: Altium Limited
footprint PIN2 (Loudspeaker; 2 Leads)
pins: 1, 2

## STM32 BLUE PILL
designator U?
footprint STM32 BLUE PILL
pins: 1 VB, 2 C13, 3 C14, 4 C15, 5 A0, 6 A1, 7 A2, 8 A3, 9 A4, 10 A5, 11 A6, 12 A7, 13 B0, 14 B1, 15 B2, 16 B3, 17 R, 18 3V3, 19 G, 20 G, 21 B12, 22 B13, 23 B14, 24 B15, 25 A8, 26 A9, 27 A10, 28 A11, 29 A12, 30 A13, 31 B3, 32 B4, 33 B5, 34 B6, 35 B7, 36 B8, 37 B9, 38 5V, 39 G, 40 3V3

## SW PUSH ON/OFF S
designator SW?  (value not drawn)
footprint SW PUSH ON/OFF
pins: 1A, 1B, 2A, 2B, C1, C2

## Terminal Block 2
designator P?, comment Terminal Block
Header, 2-Pin; LatestRevisionDate: 17-Jul-2002; LatestRevisionNote: Re-released for DXP Platform.; Publisher: Altium Limited
footprint TB2S
signal-integrity model Connector
pins: 1, 2

## Terminal Block 3
designator P1, comment Terminal Block
Header, 3-Pin; LatestRevisionDate: 17-Jul-2002; LatestRevisionNote: Re-released for DXP Platform.; Publisher: Altium Limited
signal-integrity model Connector
footprint TB3S1
pins: 1, 2, 3

## Terminal Block 6
designator P?, comment Terminal Block
Header, 6-Pin; LatestRevisionDate: 17-Jul-2002; LatestRevisionNote: Re-released for DXP Platform.; Publisher: Altium Limited
footprint TB6S
pins: 1, 2, 3, 4, 5, 6

## Test Point
designator TP?  (value not drawn)
pins: 1

## TP +
designator TP?  (value not drawn)
pins: 1

## TP -
designator TP?  (value not drawn)
pins: 1

## Transistor NPN
designator Q?, comment NPN Transistor
NPN General Purpose Amplifier; Published: 8-Jun-2000; LatestRevisionDate: 15-Jan-2003; LatestRevisionNote: PCB Footprint 'BCY-W3/D4.7' replaced; DatasheetDocument: 1997; PackageDocument: Sep-1998; PackageReference: TO-92A; Publisher: Altium Limited; Code_JEDEC: TO-92A; ComponentLink1Description: Manufacturer Link; ComponentLink1URL: http://www.fairchildsemi.com/; ComponentLink2Description: Datasheet; ComponentLink2URL: http://www.fairchildsemi.com/ds/2N%2F2N3904.pdf
footprint to-126
footprint TO-18
footprint TO-92A 2
footprint TO-92B 2
footprint TO-92C 2
footprint To-92A 1
footprint To-92B 1
footprint To-92C 1
pins: B, C, E

## Transistor NPN 1
designator Q?, comment NPN
NPN General Purpose Amplifier; Published: 8-Jun-2000; LatestRevisionDate: 15-Jan-2003; LatestRevisionNote: PCB Footprint 'BCY-W3/D4.7' replaced; DatasheetDocument: 1997; PackageDocument: Sep-1998; PackageReference: TO-92A; Publisher: Altium Limited; Code_JEDEC: TO-92A; ComponentLink1Description: Manufacturer Link; ComponentLink1URL: http://www.fairchildsemi.com/; ComponentLink2Description: Datasheet; ComponentLink2URL: http://www.fairchildsemi.com/ds/2N%2F2N3904.pdf
footprint TO-92C3
pins: B, C, E

## Transistor NPN 2
designator Q?, comment NPN
NPN General Purpose Amplifier; Published: 8-Jun-2000; LatestRevisionDate: 15-Jan-2003; LatestRevisionNote: PCB Footprint 'BCY-W3/D4.7' replaced; DatasheetDocument: 1997; PackageDocument: Sep-1998; PackageReference: TO-92A; Publisher: Altium Limited; Code_JEDEC: TO-92A; ComponentLink1Description: Manufacturer Link; ComponentLink1URL: http://www.fairchildsemi.com/; ComponentLink2Description: Datasheet; ComponentLink2URL: http://www.fairchildsemi.com/ds/2N%2F2N3904.pdf
footprint TO-92C3
pins: B, C, E

## Transistor NPN 3
designator Q?, comment NPN
NPN General Purpose Amplifier; Published: 8-Jun-2000; LatestRevisionDate: 15-Jan-2003; LatestRevisionNote: PCB Footprint 'BCY-W3/D4.7' replaced; DatasheetDocument: 1997; PackageDocument: Sep-1998; PackageReference: TO-92A; Publisher: Altium Limited; Code_JEDEC: TO-92A; ComponentLink1Description: Manufacturer Link; ComponentLink1URL: http://www.fairchildsemi.com/; ComponentLink2Description: Datasheet; ComponentLink2URL: http://www.fairchildsemi.com/ds/2N%2F2N3904.pdf
pins: B, C, E

## Transistor PNP
designator Q?, comment PNP Transistor
PNP General Purpose Amplifier; Published: 8-Jun-2000; LatestRevisionDate: 15-Jan-2003; LatestRevisionNote: PCB Footprint 'BCY-W3/D4.7' replaced; DatasheetDocument: 1997; PackageDocument: Sep-1998; PackageReference: TO-92A; Publisher: Altium Limited; Code_JEDEC: TO-92A; ComponentLink1Description: Manufacturer Link; ComponentLink1URL: http://www.fairchildsemi.com/; ComponentLink2Description: Datasheet; ComponentLink2URL: http://www.fairchildsemi.com/ds/2N%2F2N3904.pdf
footprint TO-92A 2
footprint to-126
footprint TO-18
footprint TO-92B 2
footprint TO-92C 2
pins: B, C, E

## Transistor PNP 1
designator Q?, comment NPN
NPN General Purpose Amplifier; Published: 8-Jun-2000; LatestRevisionDate: 15-Jan-2003; LatestRevisionNote: PCB Footprint 'BCY-W3/D4.7' replaced; DatasheetDocument: 1997; PackageDocument: Sep-1998; PackageReference: TO-92A; Publisher: Altium Limited; Code_JEDEC: TO-92A; ComponentLink1Description: Manufacturer Link; ComponentLink1URL: http://www.fairchildsemi.com/; ComponentLink2Description: Datasheet; ComponentLink2URL: http://www.fairchildsemi.com/ds/2N%2F2N3904.pdf
footprint TO-92C3
pins: B, C, E

## Transistor PNP 2
designator Q?, comment NPN
PNP General Purpose Amplifier; Published: 8-Jun-2000; LatestRevisionDate: 15-Jan-2003; LatestRevisionNote: PCB Footprint 'BCY-W3/D4.7' replaced; DatasheetDocument: 1997; PackageDocument: Sep-1998; PackageReference: TO-92A; Publisher: Altium Limited; Code_JEDEC: TO-92A; ComponentLink1Description: Manufacturer Link; ComponentLink1URL: http://www.fairchildsemi.com/; ComponentLink2Description: Datasheet; ComponentLink2URL: http://www.fairchildsemi.com/ds/2N%2F2N3904.pdf
footprint TO-92C3
pins: B, C, E

## Transistor PNP 3
designator Q?, comment PNP
PNP General Purpose Amplifier; Published: 8-Jun-2000; LatestRevisionDate: 15-Jan-2003; LatestRevisionNote: PCB Footprint 'BCY-W3/D4.7' replaced; DatasheetDocument: 1997; PackageDocument: Sep-1998; PackageReference: TO-92A; Publisher: Altium Limited; Code_JEDEC: TO-92A; ComponentLink1Description: Manufacturer Link; ComponentLink1URL: http://www.fairchildsemi.com/; ComponentLink2Description: Datasheet; ComponentLink2URL: http://www.fairchildsemi.com/ds/2N%2F2N3904.pdf
footprint TO-92C3
pins: B, C, E

## USB
designator P?, comment Isolated Sub-Miniature 1W Single Output DC/DC Converters  (value not drawn)
Manufacturer Part No: NKE1205SC; Price: *; Order Code: *; Manufacturer: *; Value: *
footprint USB type B
footprint USB type B 2
pins: 1, 2, 3, 4, 5, 6

## XTAL
designator Y?
Crystal Oscillator; Published: 8-Jun-2000; LatestRevisionDate: 17-Jul-2002; LatestRevisionNote: Re-released for DXP Platform.; PackageReference: R38; Publisher: Altium Limited; PackageDescription: Crystal, Thru-Hole; 2 Leads; Body 3.1 x 8.2 mm (Dia.xH)
footprint XTAL MHz
pins: 1 OSC1, 2 OSC2